# Altium footprint library deepshark_pcb_lib.PcbLib: 21 footprints (part 2 of 2)
Each footprint in its own frame and in the unit in brackets; x right, y up, seen from the top. Pads: shape width x height; smd on the part's side, far side on the other; paste and mask are expansions set on the pad; w line width, h text height; cw(c..) or ccw(c..) is an arc to the next point about the centre after c.
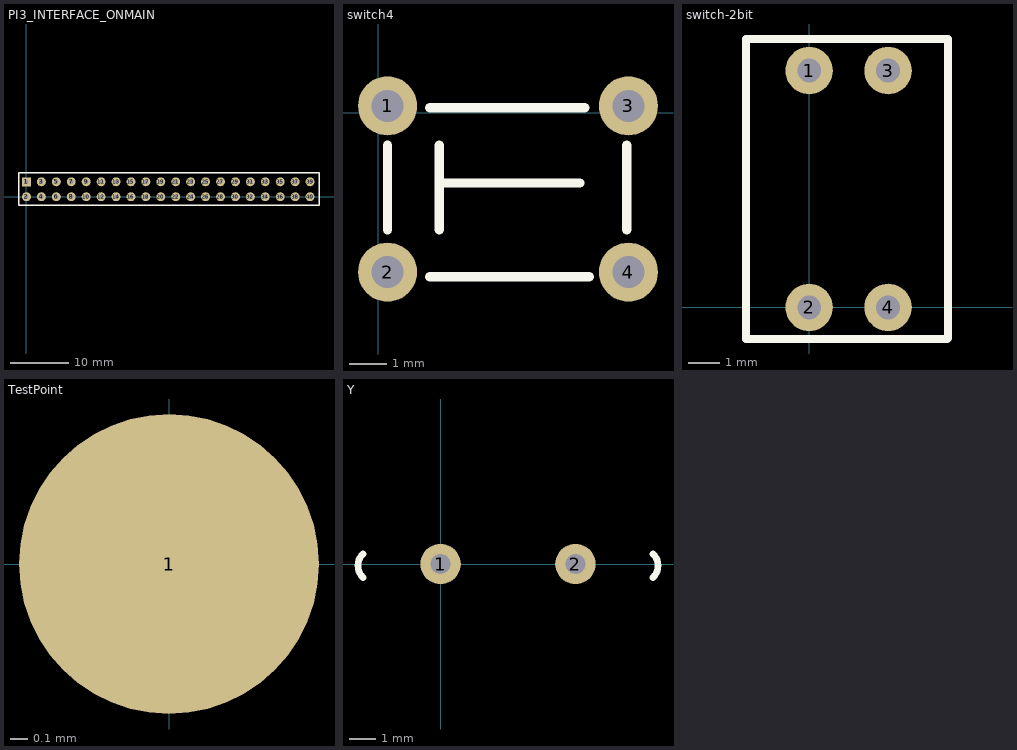
[diagram p1: the footprints below, top view; thin cyan lines are the x and y axes]

## PI3_INTERFACE_ONMAIN [mil]
pads (40):
  rect 60x60 hole 30: 1(0,100)
  round 60 hole 30: 2(0,0) 3(100,100) 4(100,0) 5(200,100) 6(200,0) 7(300,100) 8(300,0) 9(400,100) 10(400,0) 11(500,100) 12(500,0) 13(600,100) 14(600,0) 15(700,100) 16(700,0) 17(800,100) 18(800,0) 19(900,100) 20(900,0) 21(1000,100) 22(1000,0) 23(1100,100) 24(1100,0) 25(1200,100) 26(1200,0) 27(1300,100) 28(1300,0) 29(1400,100) 30(1400,0) 31(1500,100) 32(1500,0) 33(1600,100) 34(1600,0) 35(1700,100) 36(1700,0) 37(1800,100) 38(1800,0) 39(1900,100) 40(1900,0)
Top Overlay:
  lines w10: -50,-56.54 1960,-56.54 1960,160 -50,160 -50,-56.54

## switch4 [mm]
pads (4):
  round 1.6 hole 0.87: 1(0.254,0.182) 2(0.254,-4.318) 3(6.774,0.182) 4(6.774,-4.318)
Top Overlay:
  lines w0.254: 0.254,-3.175 0.254,-0.889 ; 1.397,-4.445 5.715,-4.445 ; 1.397,0.127 5.588,0.127 ; 1.651,-3.175 1.651,-0.889 ; 1.651,-1.905 5.461,-1.905 ; 6.731,-3.175 6.731,-0.889

## switch-2bit [mil]
pads (4):
  round 60 hole 30: 1(0,300) 2(0,0) 3(100,300) 4(100,0)
Top Overlay:
  lines w10: 175,-40 -80,-40 -80,340 175.91,340 175.91,-39.09

## TestPoint [mm]
pads (1):
  round 1.7 smd: 1(0,0)

## Y [mil]
pads (2):
  round 60 hole 30: 1(0,0) 2(200,0)
Top Overlay:
  lines w10: -115,-20 cw(c-97.5,-2.5) -115,15 ; 315,-20 ccw(c297.5,-2.5) 315,15